# Altium integrated library 100uH_Ind_LQH3NPH101MMEL.IntLib: 1 symbol
Pins are listed as number, name and electrical type; pins without a type are passive.

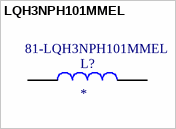
[diagram p0: symbol LQH3NPH101MMEL]

## LQH3NPH101MMEL
designator L?  Supplier Part Number 1: 81-LQH3NPH101MMEL
FIXED IND 10UH 1280MA POWRTRNAUT; MP: LQH3NPH101MMEL; Package: None; Price: None; Value: *; Availability: Unavailable; Supplier 1: Mouser; ComponentLink1Description: New link; ComponentLink1URL: *
footprint IND_LQH3NPH101MMEL
pins: 1, 2